# EAGLE library part PICAXE08M (library Oles komponentbibliotek)
PICAXE 08M microcontroller
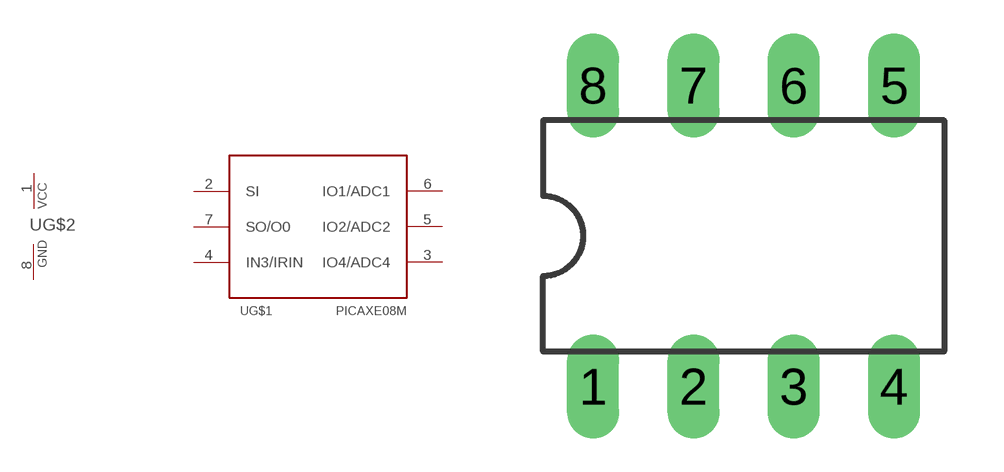
[diagram p7: symbol with the pads of DIL08; footprint DIL08]

Designator prefix -; gates G$1=PICAXE08M G$2=PWRN

## PICAXE08M  [DIL08]
1  G$2:VCC  pwr
2  G$1:SI  in
3  G$1:IO4/ADC4
4  G$1:IN3/IRIN  in
5  G$1:IO2/ADC2
6  G$1:IO1/ADC1
7  G$1:SO/O0  out
8  G$2:GND  pwr

## Footprint DIL08 (pad centres in mm)
Dual In Line Package
drill 0.813 long: 1 -3.81,-3.81; 2 -1.27,-3.81; 3 1.27,-3.81; 4 3.81,-3.81; 5 3.81,3.81; 6 1.27,3.81; 7 -1.27,3.81; 8 -3.81,3.81